# EAGLE library part GY-86 (library GY_Boards)
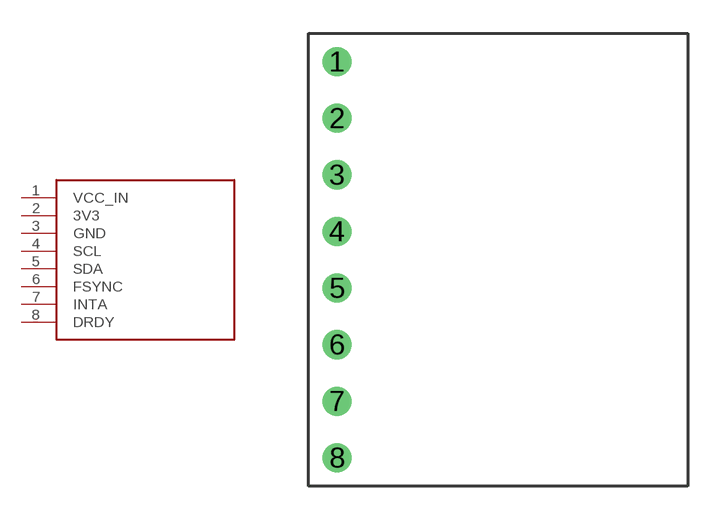
[diagram p0: symbol with the pads of GY-86; footprint GY-86]

Designator prefix -

## GY-86  [GY-86]
1  VCC_IN  oc
2  3V3  out
3  GND  pwr
4  SCL  nc
5  SDA
6  FSYNC
7  INTA
8  DRDY  out

## Footprint GY-86 (pad centres in mm)
drill 0.8: 1 1.27,19.05; 2 1.27,16.51; 3 1.27,13.97; 4 1.27,11.43; 5 1.27,8.89; 6 1.27,6.35; 7 1.27,3.81; 8 1.27,1.27